# Altium integrated library WD Peripheral Disk Pulse Detector.IntLib: 2 symbols
Pins are listed as number, name and electrical type; pins without a type are passive.

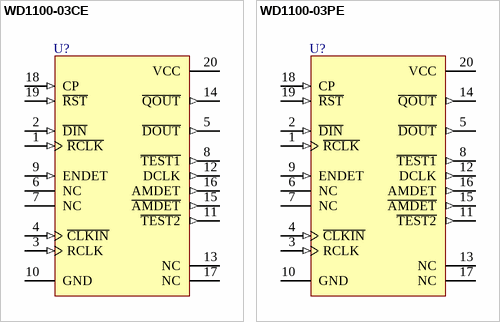
[diagram p0: symbols WD1100-03CE to WD1100-03PE]

## WD1100-03CE
designator U?
AM Detector; PackageDocument: 1984; Published: 8-Jun-2000; LatestRevisionDate: 4-Mar-2005; LatestRevisionNote: Stylized 3D Model Added.; DatasheetDocument: 1984; PackageReference: CE20; Publisher: Altium Limited; ComponentLink1Description: Manufacturer Link; ComponentLink1URL: http://www.wdc.com/
footprint CE20 (DIP; 20 Leads; Row Spacing 7.62 mm; Pitch 2.54 mm)
3D model CE20 (DIP; 20 Leads; Row Spacing 7.62 mm; Pitch 2.54 mm)
pins: 1 ~{RCLK} (in), 2 ~{DIN} (in), 3 RCLK (in), 4 ~{CLKIN} (in), 5 ~{DOUT} (out), 6 NC, 7 NC, 8 ~{TEST1} (out), 9 ENDET (in), 10 GND (power), 11 ~{TEST2} (out), 12 DCLK (out), 13 NC, 14 ~{QOUT} (out), 15 ~{AMDET} (out), 16 AMDET (out), 17 NC, 18 CP (in), 19 ~{RST} (in), 20 VCC (power)

## WD1100-03PE
designator U?
AM Detector; PackageDocument: 1984; Published: 8-Jun-2000; LatestRevisionDate: 4-Mar-2005; LatestRevisionNote: Stylized 3D Model Added.; DatasheetDocument: 1984; PackageReference: PE20; Publisher: Altium Limited; ComponentLink1Description: Manufacturer Link; ComponentLink1URL: http://www.wdc.com/; Code_JEDEC: MS-001-AD
footprint PE20 (DIP; 20 Leads; Row Spacing 7.62 mm; Pitch 2.54 mm)
3D model PE20 (DIP; 20 Leads; Row Spacing 7.62 mm; Pitch 2.54 mm)
pins: 1 ~{RCLK} (in), 2 ~{DIN} (in), 3 RCLK (in), 4 ~{CLKIN} (in), 5 ~{DOUT} (out), 6 NC, 7 NC, 8 ~{TEST1} (out), 9 ENDET (in), 10 GND (power), 11 ~{TEST2} (out), 12 DCLK (out), 13 NC, 14 ~{QOUT} (out), 15 ~{AMDET} (out), 16 AMDET (out), 17 NC, 18 CP (in), 19 ~{RST} (in), 20 VCC (power)